# Altium integrated library Motorola Analog Comparator.IntLib: 61 symbols (part 2 of 2)
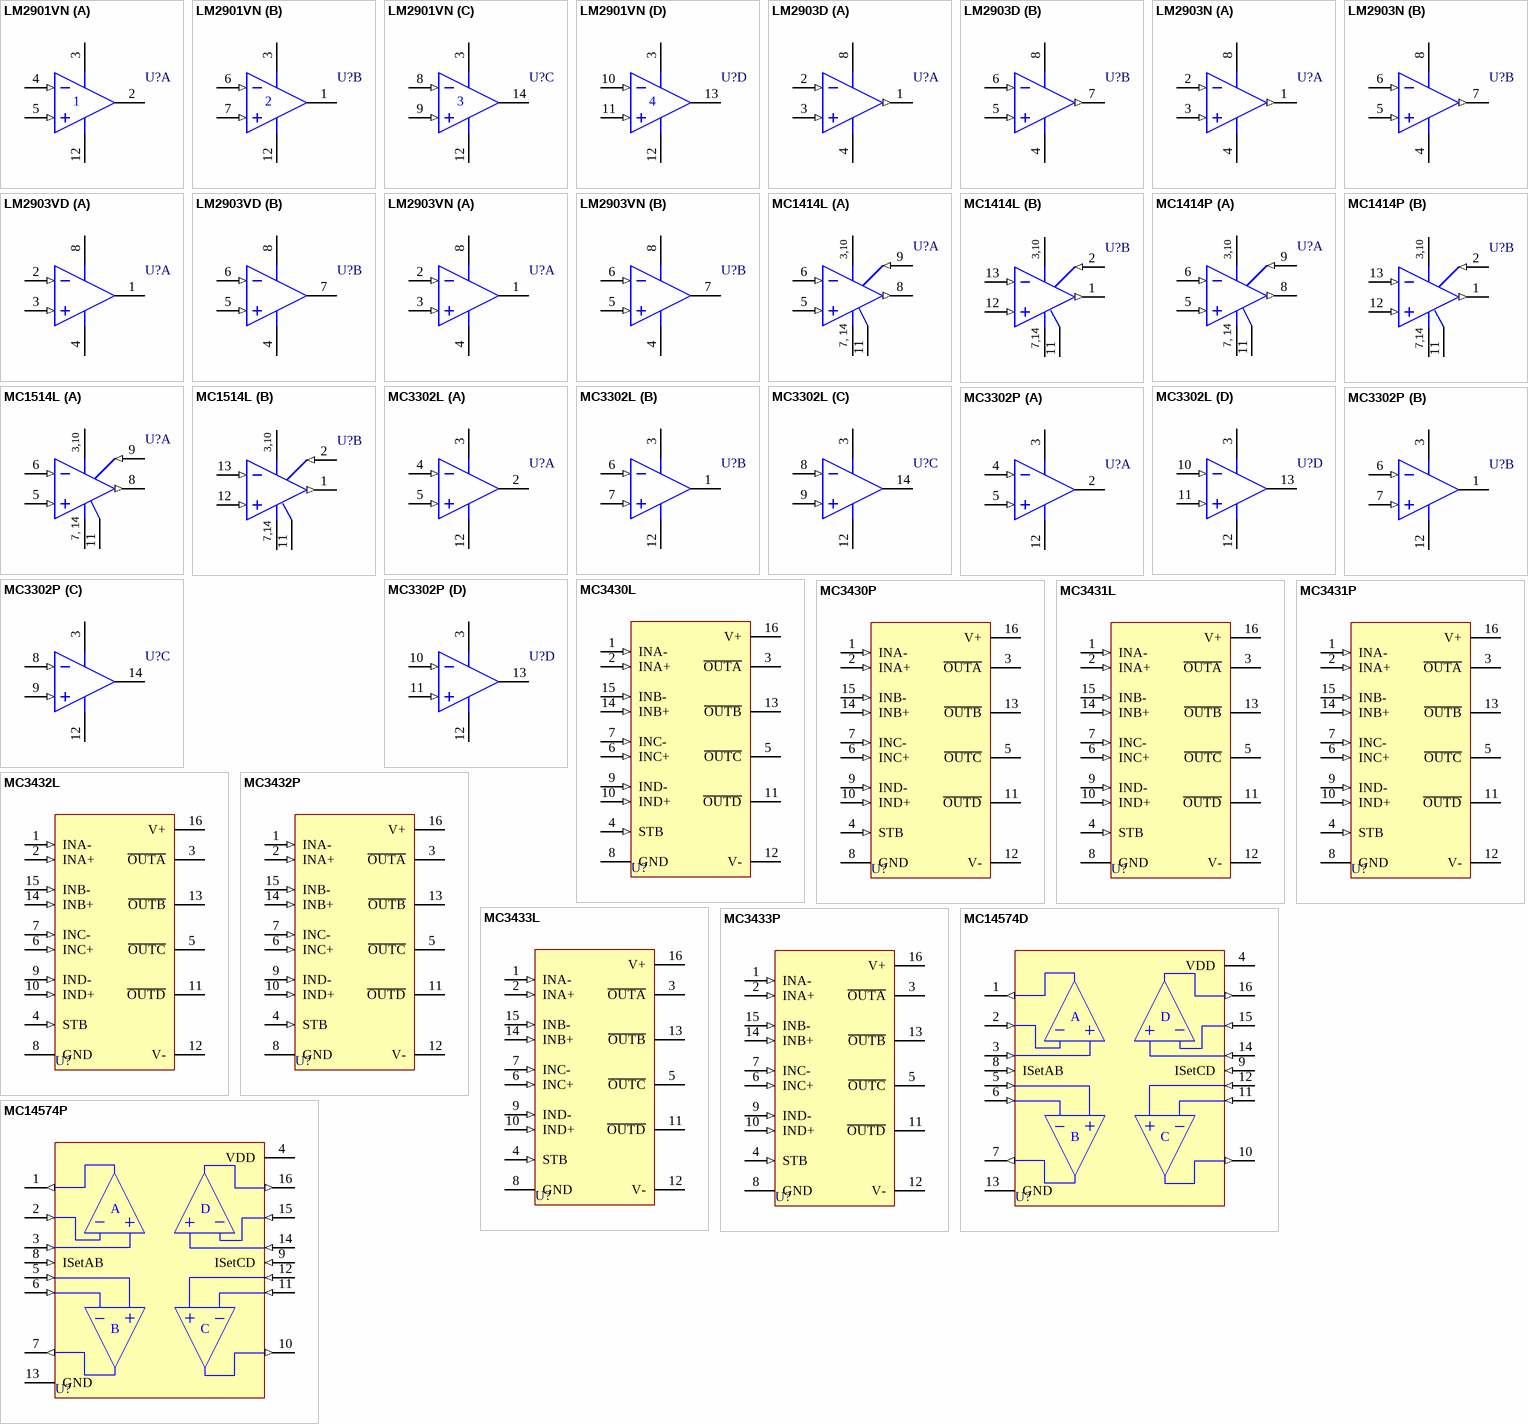
[diagram p4: symbols LM2901VN to MC14574P]

## MC3433P
designator U?
Quad High-Speed Voltage Comparator; Published: 17-Jul-2002; LatestRevisionDate: 06-Jun-2005; LatestRevisionNote: Stylized 3D Model Added.; DatasheetVersion: 1988; PackageReference: 648-06; Publisher: Altium Limited; PackageDescription: DIP; 16 Leads; Row Spacing 7.62 mm; Pitch 2.54 mm; ComponentLink1Description: Manufacturer Link; ComponentLink1URL: http://www.onsemi.com/site/products/taxonomy/0,4438,133,00.html
footprint 648-06 (DIP; 16 Leads; Row Spacing 7.62 mm; Pitch 2.54 mm)
3D model 648-06 (DIP; 16 Leads; Row Spacing 7.62 mm; Pitch 2.54 mm)
pins: 1 INA- (in), 2 INA+ (in), 3 ~{OUTA} (hiz), 4 STB (in), 5 ~{OUTC} (hiz), 6 INC+ (in), 7 INC- (in), 8 GND (power), 9 IND- (in), 10 IND+ (in), 11 ~{OUTD} (hiz), 12 V- (power), 13 ~{OUTB} (hiz), 14 INB+ (in), 15 INB- (in), 16 V+ (power)

## MC14574D
designator U?
Quad Programmable Comparator; Published: 17-Jul-2002; LatestRevisionDate: 13-Apr-2006; LatestRevisionNote: IPC-7351 Footprint Added.; DatasheetVersion: 1991; PackageVersion: 1991; PackageReference: 751B-03; Publisher: Altium Limited; PackageDescription: 16-Pin Small Outline Integrated Circuit 1.27 mm Pitch; Code_JEDEC: MS-012-AC; Code_IPC: SOIC127P600-16; ComponentLink1Description: Manufacturer Link; ComponentLink1URL: http://www.onsemi.com/site/products/taxonomy/0,4438,133,00.html
footprint 751B-03_N (SOIC, 16-Leads, Body 9.9x3.9mm, Pitch 1.27mm, IPC Medium Density)
footprint 751B-03_L (SOIC, 16-Leads, Body 9.9x3.9mm, Pitch 1.27mm, IPC High Density)
footprint 751B-03_M (SOIC, 16-Leads, Body 9.9x3.9mm, Pitch 1.27mm, IPC Low Density)
3D model 751B-03 (16-Pin Small Outline Integrated Circuit 1.27 mm Pitch)
pins: 1 OUT A (out), 2 A- (in), 3 A+ (in), 4 VDD (power), 5 B+ (in), 6 B- (in), 7 OUT B (out), 8 ISetAB (in), 9 ISetCD (in), 10 OUT C (out), 11 C- (in), 12 C+ (in), 13 GND (power), 14 D+ (in), 15 D- (in), 16 OUT D (out)
text: A; D; B; C

## MC14574P
designator U?
Quad Programmable Comparator; Published: 17-Jul-2002; LatestRevisionDate: 06-Jun-2005; LatestRevisionNote: Stylized 3D Model Added.; DatasheetVersion: 1991; PackageReference: 648-08; Publisher: Altium Limited; PackageDescription: DIP; 16 Leads; Row Spacing 7.62 mm; Pitch 2.54 mm; Code_JEDEC: MS-001-BB; ComponentLink1Description: Manufacturer Link; ComponentLink1URL: http://www.onsemi.com/site/products/taxonomy/0,4438,133,00.html
footprint 648-08 (DIP; 16 Leads; Row Spacing 7.62 mm; Pitch 2.54 mm)
3D model 648-08 (DIP; 16 Leads; Row Spacing 7.62 mm; Pitch 2.54 mm)
pins: 1 OUT A (out), 2 A- (in), 3 A+ (in), 4 VDD (power), 5 B+ (in), 6 B- (in), 7 OUT B (out), 8 ISetAB (in), 9 ISetCD (in), 10 OUT C (out), 11 C- (in), 12 C+ (in), 13 GND (power), 14 D+ (in), 15 D- (in), 16 OUT D (out)
text: A; D; B; C